# Altium footprint library TSOP(II)-66.PcbLib: 1 footprints
Each footprint in its own frame and in the unit in brackets; x right, y up, seen from the top. Pads: shape width x height; smd on the part's side, far side on the other; paste and mask are expansions set on the pad; w line width, h text height; cw(c..) or ccw(c..) is an arc to the next point about the centre after c.
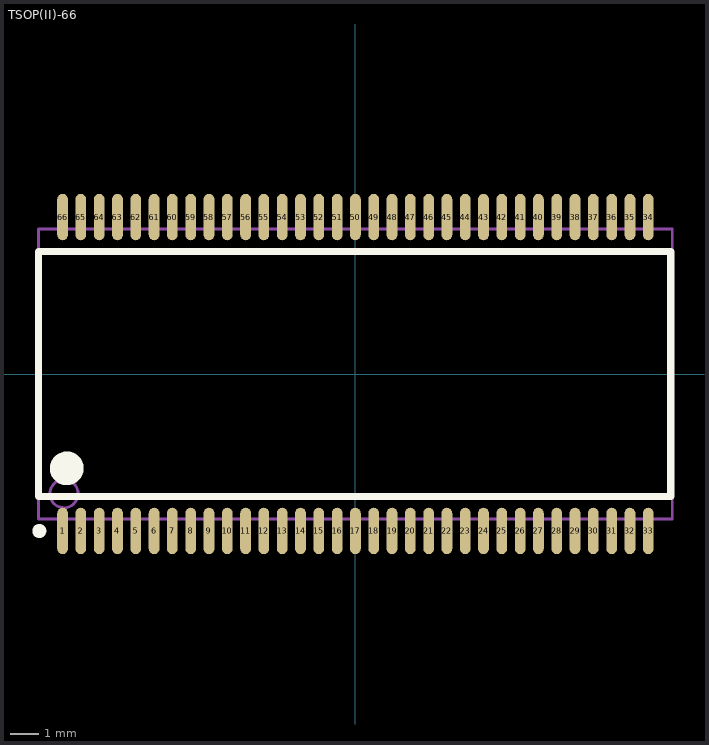
[diagram p0: the footprint, top view; thin cyan lines are the x and y axes]

## TSOP(II)-66 [mm]
pads (66):
  oval 0.38x1.65 smd mask+0.051: 1(-10.4,-5.575) 2(-9.75,-5.575) 3(-9.1,-5.575) 4(-8.45,-5.575) 5(-7.8,-5.575) 6(-7.15,-5.575) 7(-6.5,-5.575) 8(-5.85,-5.575) 9(-5.2,-5.575) 10(-4.55,-5.575) 11(-3.9,-5.575) 12(-3.25,-5.575) 13(-2.6,-5.575) 14(-1.95,-5.575) 15(-1.3,-5.575) 16(-0.65,-5.575) 17(0,-5.575) 18(0.65,-5.575) 19(1.3,-5.575) 20(1.95,-5.575) 21(2.6,-5.575) 22(3.25,-5.575) 23(3.9,-5.575) 24(4.55,-5.575) 25(5.2,-5.575) 26(5.85,-5.575) 27(6.5,-5.575) 28(7.15,-5.575) 29(7.8,-5.575) 30(8.45,-5.575) 31(9.1,-5.575) 32(9.75,-5.575) 33(10.4,-5.575) 34(10.4,5.575) 35(9.75,5.575) 36(9.1,5.575) 37(8.45,5.575) 38(7.8,5.575) 39(7.15,5.575) 40(6.5,5.575) 41(5.85,5.575) 42(5.2,5.575) 43(4.55,5.575) 44(3.9,5.575) 45(3.25,5.575) 46(2.6,5.575) 47(1.95,5.575) 48(1.3,5.575) 49(0.65,5.575) 50(0,5.575) 51(-0.65,5.575) 52(-1.3,5.575) 53(-1.95,5.575) 54(-2.6,5.575) 55(-3.25,5.575) 56(-3.9,5.575) 57(-4.55,5.575) 58(-5.2,5.575) 59(-5.85,5.575) 60(-6.5,5.575) 61(-7.15,5.575) 62(-7.8,5.575) 63(-8.45,5.575) 64(-9.1,5.575) 65(-9.75,5.575) 66(-10.4,5.575)
Top Overlay:
  circle w0.6: c-10.25,-3.35 r0.3
  circle w0.25: c-11.225,-5.575 r0.125
  lines w0.254: -11.25,-4.35 -11.25,4.35 11.2,4.35 11.2,-4.35 -11.25,-4.35
Mechanical 13:
  circle w0.1: c-10.35,-4.25 r0.5
  lines w0.1: -11.25,-5.15 -11.25,5.15 11.25,5.15 11.25,-5.15 -11.25,-5.15